# Altium schematic symbol library SN74LVC1G07DBVRE4.SchLib: 1 symbol
Pins are listed as number, name and electrical type; pins without a type are passive.

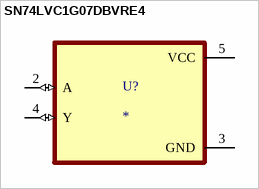
[diagram p0: symbol SN74LVC1G07DBVRE4]

## SN74LVC1G07DBVRE4
designator U?
Single Buffer/Driver With Open-Drain Output 5-SOT-23 -40 to 125; MF: Texas Instruments; MP: SN74LVC1G07DBVRE4; SnapEDA_Link: https://www.snapeda.com/parts/SN74LVC1G07DBVRE4/Texas+Instruments/view-part/?ref=snap; Package: SOT-23-5 Texas Instruments; Value: *; Check_prices: https://www.snapeda.com/parts/SN74LVC1G07DBVRE4/Texas+Instruments/view-part/?ref=eda
footprint SOT95P280X145-5N
pins: 2 A (io), 3 GND (power), 4 Y (io), 5 VCC (power)